# Altium schematic symbol library stepper.SchLib: 1 symbol
Pins are listed as number, name and electrical type; pins without a type are passive.

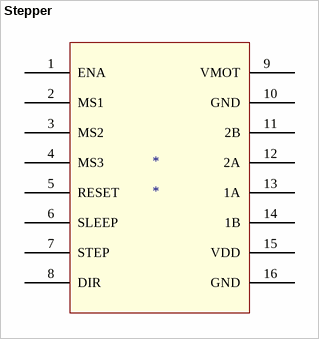
[diagram p0: symbol Stepper]

## Stepper
designator *
footprint stepper
pins: 1 ENA, 2 MS1, 3 MS2, 4 MS3, 5 RESET, 6 SLEEP, 7 STEP, 8 DIR, 9 VMOT, 10 GND, 11 2B, 12 2A, 13 1A, 14 1B, 15 VDD, 16 GND